# Altium footprint library SM05B-SRSS-TB_LF__SN_.PCBLIB: 1 footprints
Each footprint in its own frame and in the unit in brackets; x right, y up, seen from the top. Pads: shape width x height; smd on the part's side, far side on the other; paste and mask are expansions set on the pad; w line width, h text height; cw(c..) or ccw(c..) is an arc to the next point about the centre after c.
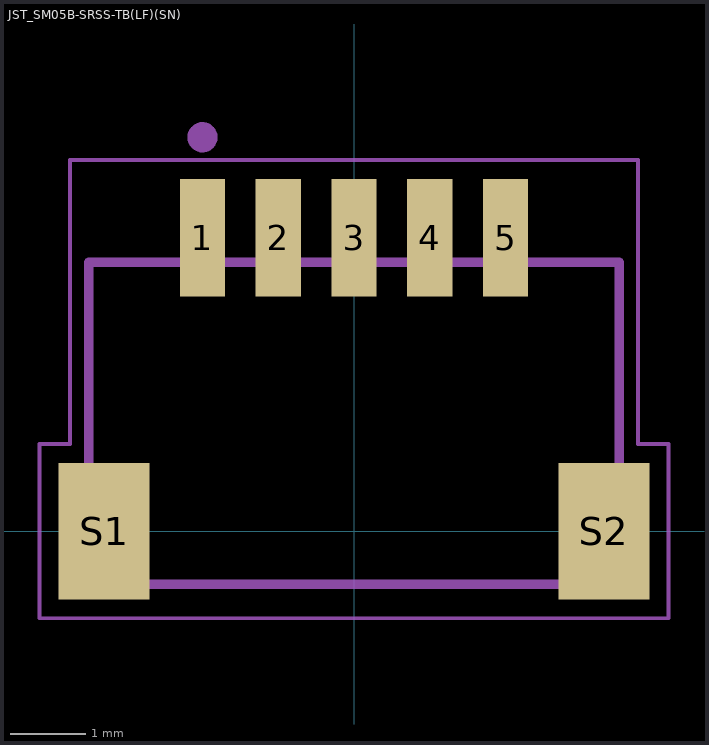
[diagram p0: the footprint, top view; thin cyan lines are the x and y axes]

## JST_SM05B-SRSS-TB(LF)(SN) [mm]
pads (7):
  rect 0.6x1.55 smd: 1(-2,3.875) 2(-1,3.875) 3(0,3.875) 4(1,3.875) 5(2,3.875)
  rect 1.2x1.8 smd: S1(-3.3,0) S2(3.3,0)
Assembly Top:
  circle w0.2: c-2,5.2 r0.1
  lines w0.127: -3.5,-0.7 -3.5,3.55 3.5,3.55 3.5,-0.7 -3.5,-0.7
Mechanical 22:
  circle w0.2: c-2,5.2 r0.1
  lines w0.127: -3.5,1.21 -3.5,3.55 -2.61,3.55 ; -2.39,-0.7 2.39,-0.7 ; 2.61,3.55 3.5,3.55 3.5,1.21
Mechanical 30:
  lines w0.05: -4.15,-1.15 -4.15,1.15 -3.75,1.15 -3.75,4.9 3.75,4.9 3.75,1.15 4.15,1.15 4.15,-1.15 -4.15,-1.15